# Altium footprint library Antenna.PcbLib: 19 footprints (part 2 of 2)
Each footprint in its own frame and in the unit in brackets; x right, y up, seen from the top. Pads: shape width x height; smd on the part's side, far side on the other; paste and mask are expansions set on the pad; w line width, h text height; cw(c..) or ccw(c..) is an arc to the next point about the centre after c.
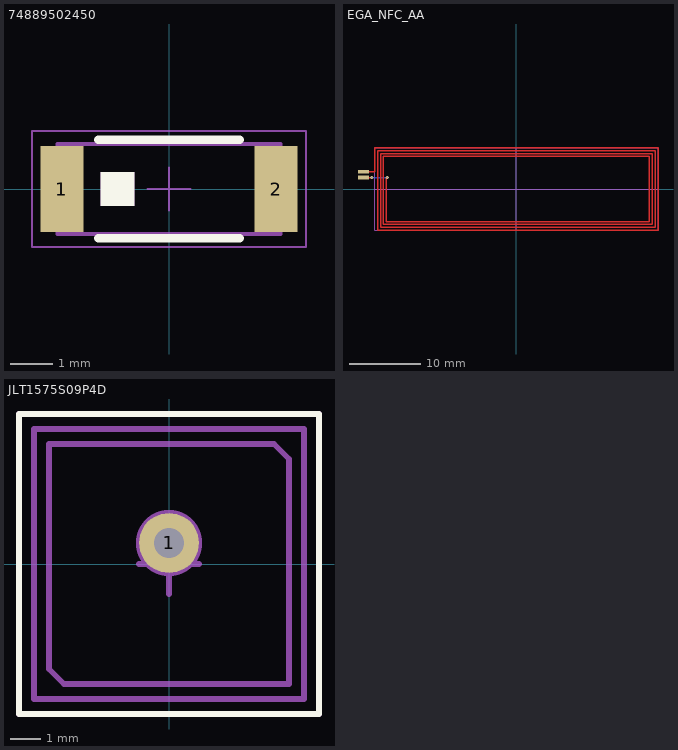
[diagram p1: the footprints below, top view; thin cyan lines are the x and y axes]

## 74889502450 [mm] "SMT-Multilayer Chip Antenna, body 5.2x2.1mm"
height 1
pads (2):
  rect 1x2 smd: 1(-2.5,0) 2(2.5,0)
Top Overlay:
  rectangle: -1.6,-0.4 -0.8,0.4
  lines w0.2: -1.65,-1.15 1.65,-1.15 ; -1.65,1.15 1.65,1.15
Top Designator:
  text ".Designator" at -5.998,-0.4 h1.2
Top Component Outline:
  rectangle: -1.6,-0.4 -0.8,0.4
  lines w0.1: -2.6,-1.05 -2.6,1.05 2.6,1.05 2.6,-1.05 -2.6,-1.05
Mechanical 13:
  rectangle: -1.6,-0.4 -0.8,0.4
  lines w0.1: -2.6,-1.05 2.6,-1.05 2.6,1.05 -2.6,1.05 -2.6,-1.05
Mechanical 15:
  lines w0.05: -0.5,0 0.5,0 ; 0,-0.5 0,0.5 ; -3.2,-1.35 -3.2,1.35 3.2,1.35 3.2,-1.35 -3.2,-1.35
3D body "74889502450.stp": height 1, standoff 0, extent -2.6,-1.05 2.6,1.05

## EGA_NFC_AA [mm]
pads (2):
  rect 1.524x0.5 smd mask+0.102: 1(-21.33,2.4) 2(-21.33,1.6)
via -20.169,1.6 diameter 0.46 hole 0.2
via -18,1.6 diameter 0.46 hole 0.2
Top Layer:
  lines w0.2: -21.33,1.6 -20.169,1.6 ; -21.33,2.4 -19.75,2.4 -19.75,5.75 19.75,5.75 19.75,-5.75 -19.35,-5.75 -19.35,5.35 19.35,5.35 19.35,-5.35 -18.95,-5.35 -18.95,4.95 18.95,4.95 18.95,-4.95 -18.55,-4.95 -18.55,4.55 18.55,4.55 18.55,-4.55 -18.15,-4.55 -18.15,1.45 -18,1.6
Bottom Layer:
  lines w0.2: -20.169,1.6 -18,1.6
Mechanical 13:
  lines w0.1: -19.75,0 19.75,0 ; 0,-5.75 0,5.75 ; -19.75,-5.75 -19.75,5.75 19.75,5.75 19.75,-5.75 -19.75,-5.75

## JLT1575S09P4D [mm]
pads (1):
  round 2 hole 1: 1(0,0.7)
Top Overlay:
  lines w0.2: -5,-5 5,-5 5,5 -5,5 -5,-5
Mechanical 13:
  circle w2: c0,0.7 r0.1
  lines w0.2: -4.5,-4.5 4.5,-4.5 4.5,4.5 -4.5,4.5 -4.5,-4.5 ; -4,-3.5 -3.5,-4 4,-4 4,3.5 3.5,4 -4,4 -4,-3.5
  text ".Designator" at -2.499,-2.167 h0.5
Mechanical 15:
  lines w0.2: -1,0 1,0 ; 0,-1 0,1 ; -5,-5 5,-5 5,5 -5,5 -5,-5
3D body "JLT1575S09P4D v2.step": height 5, standoff -2, extent -4.5,-4.5 4.5,4.5